# Altium footprint library switch-dil.PCBLIB: 88 footprints (part 2 of 6)
Each footprint in its own frame and in the unit in brackets; x right, y up, seen from the top. Pads: shape width x height; smd on the part's side, far side on the other; paste and mask are expansions set on the pad; w line width, h text height; cw(c..) or ccw(c..) is an arc to the next point about the centre after c.
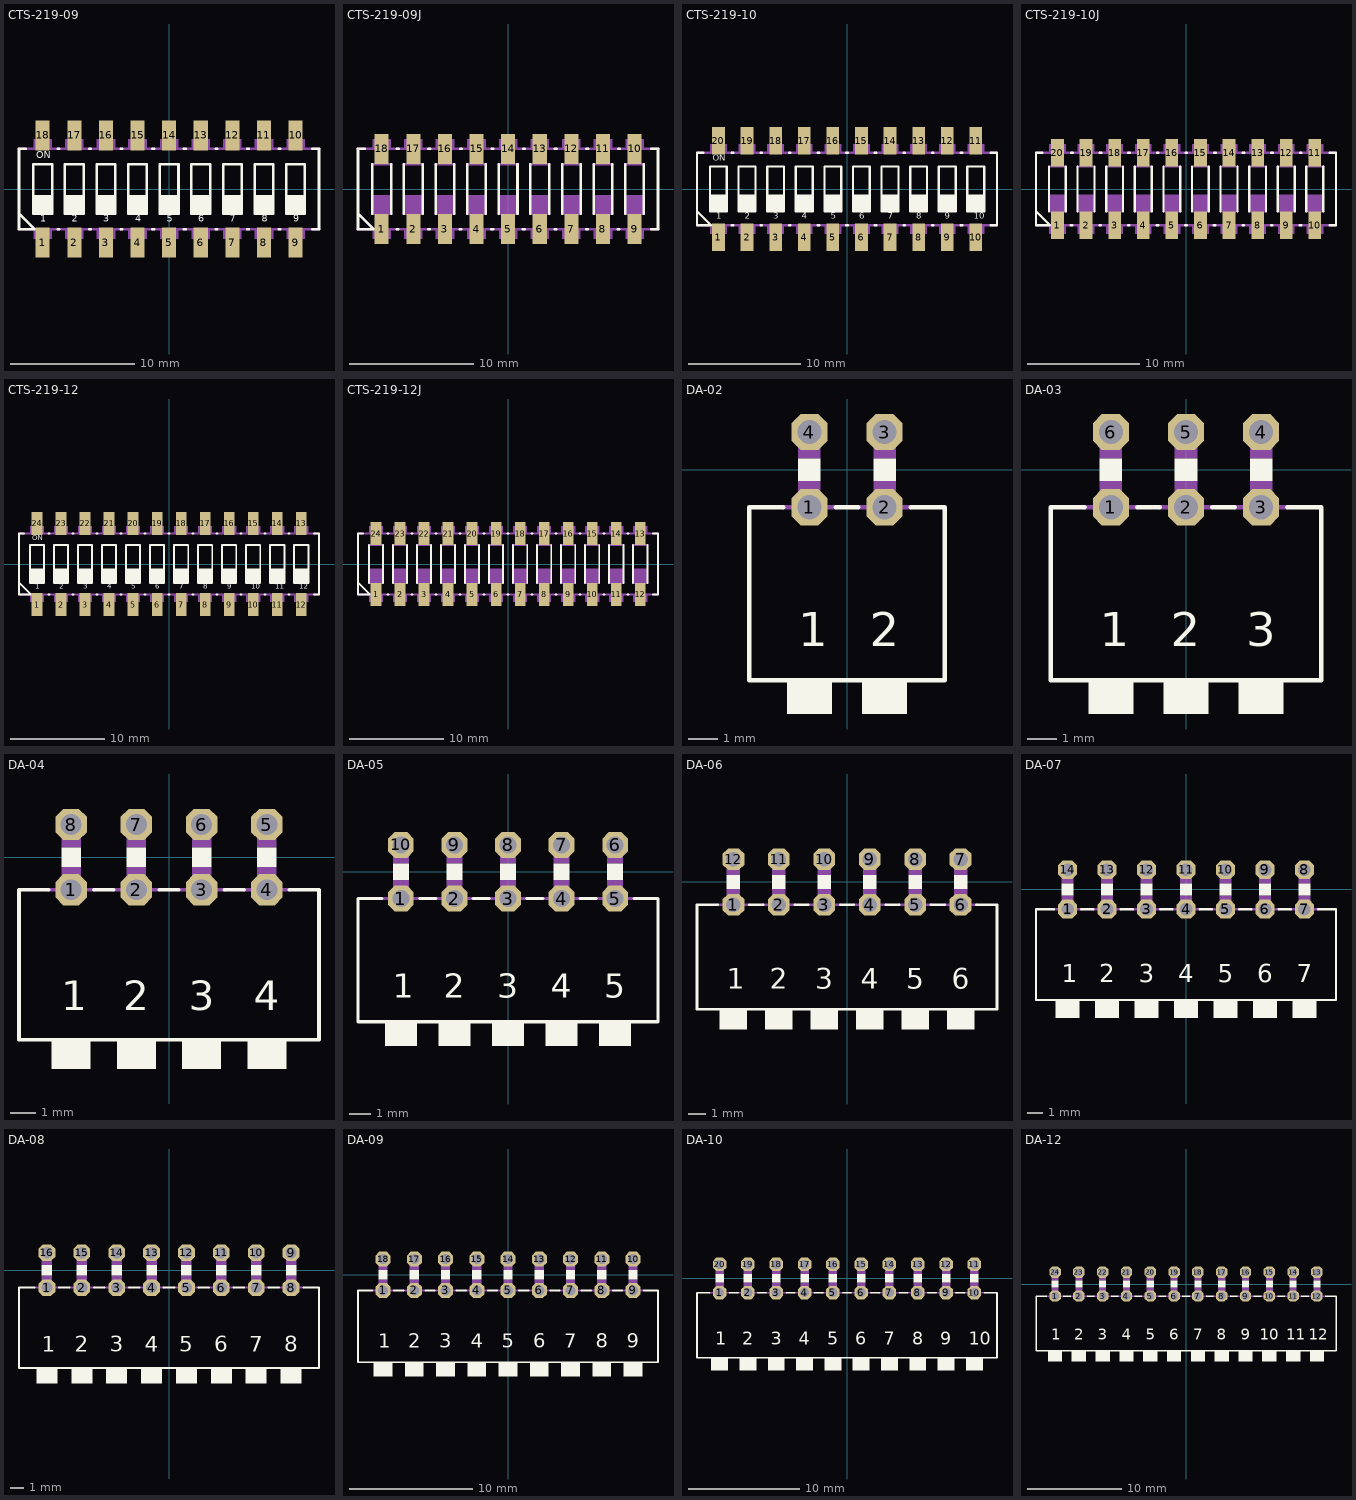
[diagram p1: the footprints below, top view; thin cyan lines are the x and y axes]

## CTS-219-09 [mil]
pads (18):
  rect 44.49x96.06 smd: 1(-400,-169.29) 2(-300,-169.29) 3(-200,-169.29) 4(-100,-169.29) 5(0,-169.29) 6(100,-169.29) 7(200,-169.29) 8(300,-169.29) 9(400,-169.29) 10(400,169.29) 11(300,169.29) 12(200,169.29) 13(100,169.29) 14(0,169.29) 15(-100,169.29) 16(-200,169.29) 17(-300,169.29) 18(-400,169.29)
Top Overlay:
  rectangle: -429.53,-78.74 -370.47,-19.69
  rectangle: -329.53,-78.74 -270.47,-19.69
  rectangle: -229.53,-78.74 -170.47,-19.69
  rectangle: -129.53,-78.74 -70.47,-19.69
  rectangle: -29.53,-78.74 29.53,-19.69
  rectangle: 70.47,-78.74 129.53,-19.69
  rectangle: 170.47,-78.74 229.53,-19.69
  rectangle: 270.47,-78.74 329.53,-19.69
  rectangle: 370.47,-78.74 429.53,-19.69
  lines w8: -474.02,-78.74 -425.79,-126.97 ; -453.15,-126.97 -425.79,-126.97 ; -453.15,126.97 -475,126.97 -475,-126.97 -425.79,-126.97 ; -353.15,-126.97 -347.83,-126.97 ; -353.15,126.97 -347.83,126.97 ; -253.15,-126.97 -247.83,-126.97 ; -253.15,126.97 -247.83,126.97 ; -153.15,-126.97 -147.83,-126.97 ; -153.15,126.97 -147.83,126.97 ; -53.15,-126.97 -47.83,-126.97 ; -53.15,126.97 -47.83,126.97 ; 46.85,-126.97 52.17,-126.97 ; 46.85,126.97 52.17,126.97 ; 146.85,-126.97 152.17,-126.97 ; 146.85,126.97 152.17,126.97 ; 246.85,-126.97 252.17,-126.97 ; 246.85,126.97 252.17,126.97 ; 346.85,-126.97 352.17,-126.97 ; 346.85,126.97 352.17,126.97 ; 452.17,-126.97 474.02,-126.97 474.02,126.97 452.17,126.97 ; -429.53,-78.74 -370.47,-78.74 -370.47,78.74 -429.53,78.74 -429.53,-78.74 ; -329.53,-78.74 -270.47,-78.74 -270.47,78.74 -329.53,78.74 -329.53,-78.74 ; -229.53,-78.74 -170.47,-78.74 -170.47,78.74 -229.53,78.74 -229.53,-78.74 ; -129.53,-78.74 -70.47,-78.74 -70.47,78.74 -129.53,78.74 -129.53,-78.74 ; -29.53,-78.74 29.53,-78.74 29.53,78.74 -29.53,78.74 -29.53,-78.74 ; 70.47,-78.74 129.53,-78.74 129.53,78.74 70.47,78.74 70.47,-78.74 ; 170.47,-78.74 229.53,-78.74 229.53,78.74 170.47,78.74 170.47,-78.74 ; 270.47,-78.74 329.53,-78.74 329.53,78.74 270.47,78.74 270.47,-78.74 ; 370.47,-78.74 429.53,-78.74 429.53,78.74 370.47,78.74 370.47,-78.74
  text "ON" at -419.69,89.57 h37.2
  text "1" at -407.87,-112.2 h37.2
  text "2" at -307.87,-112.2 h37.2
  text "3" at -207.87,-112.2 h37.2
  text "4" at -107.87,-112.2 h37.2
  text "5" at -7.87,-112.2 h37.2
  text "6" at 92.13,-112.2 h37.2
  text "7" at 192.13,-112.2 h37.2
  text "8" at 292.13,-112.2 h37.2
  text "9" at 392.13,-112.2 h37.2
Mechanical 16:
  region: -370.47,-127.95 -429.53,-127.95 -429.53,-157.48 -370.47,-157.48
  region: -170.47,-127.95 -229.53,-127.95 -229.53,-157.48 -170.47,-157.48
  region: -270.47,-127.95 -329.53,-127.95 -329.53,-157.48 -270.47,-157.48
  region: -70.47,-127.95 -129.53,-127.95 -129.53,-157.48 -70.47,-157.48
  region: 129.53,-127.95 70.47,-127.95 70.47,-157.48 129.53,-157.48
  region: 29.53,-127.95 -29.53,-127.95 -29.53,-157.48 29.53,-157.48
  region: 229.53,-127.95 170.47,-127.95 170.47,-157.48 229.53,-157.48
  region: 429.53,-127.95 370.47,-127.95 370.47,-157.48 429.53,-157.48
  region: 329.53,-127.95 270.47,-127.95 270.47,-157.48 329.53,-157.48
  rectangle: 370.47,127.95 429.53,157.48
  rectangle: 170.47,127.95 229.53,157.48
  rectangle: 270.47,127.95 329.53,157.48
  rectangle: 70.47,127.95 129.53,157.48
  rectangle: -129.53,127.95 -70.47,157.48
  rectangle: -29.53,127.95 29.53,157.48
  rectangle: -229.53,127.95 -170.47,157.48
  rectangle: -429.53,127.95 -370.47,157.48
  rectangle: -329.53,127.95 -270.47,157.48
  region: -390.16,194.88 -409.84,194.88 -409.84,157.48 -390.16,157.48
  rectangle: -409.84,-194.88 -390.16,-157.48
  region: -290.16,194.88 -309.84,194.88 -309.84,157.48 -290.16,157.48
  rectangle: -309.84,-194.88 -290.16,-157.48
  region: -190.16,194.88 -209.84,194.88 -209.84,157.48 -190.16,157.48
  rectangle: -209.84,-194.88 -190.16,-157.48
  region: -90.16,194.88 -109.84,194.88 -109.84,157.48 -90.16,157.48
  rectangle: -109.84,-194.88 -90.16,-157.48
  region: 9.84,194.88 -9.84,194.88 -9.84,157.48 9.84,157.48
  rectangle: -9.84,-194.88 9.84,-157.48
  region: 109.84,194.88 90.16,194.88 90.16,157.48 109.84,157.48
  rectangle: 90.16,-194.88 109.84,-157.48
  region: 209.84,194.88 190.16,194.88 190.16,157.48 209.84,157.48
  rectangle: 190.16,-194.88 209.84,-157.48
  region: 309.84,194.88 290.16,194.88 290.16,157.48 309.84,157.48
  rectangle: 290.16,-194.88 309.84,-157.48
  region: 409.84,194.88 390.16,194.88 390.16,157.48 409.84,157.48
  rectangle: 390.16,-194.88 409.84,-157.48
  lines w8: -475,-126.97 474.02,-126.97 ; -475,126.97 474.02,126.97

## CTS-219-09J [mil]
pads (18):
  rect 44.49x96.06 smd: 1(-400,-126.57) 2(-300,-126.57) 3(-200,-126.57) 4(-100,-126.57) 5(0,-126.57) 6(100,-126.57) 7(200,-126.57) 8(300,-126.57) 9(400,-126.57) 10(400,126.57) 11(300,126.57) 12(200,126.57) 13(100,126.57) 14(0,126.57) 15(-100,126.57) 16(-200,126.57) 17(-300,126.57) 18(-400,126.57)
Top Overlay:
  lines w8: -474.02,-78.74 -425.79,-126.97 ; -453.15,-126.97 -425.79,-126.97 ; -453.15,126.97 -475,126.97 -475,-126.97 -425.79,-126.97 ; -429.53,-78.74 -429.53,78.74 ; -370.47,-78.74 -370.47,78.74 ; -353.15,-126.97 -347.83,-126.97 ; -352.17,126.97 -346.85,126.97 ; -329.53,-78.74 -329.53,78.74 ; -270.47,-78.74 -270.47,78.74 ; -253.15,-126.97 -247.83,-126.97 ; -252.17,126.97 -246.85,126.97 ; -229.53,-78.74 -229.53,78.74 ; -170.47,-78.74 -170.47,78.74 ; -153.15,-126.97 -147.83,-126.97 ; -152.17,126.97 -146.85,126.97 ; -129.53,-78.74 -129.53,78.74 ; -70.47,-78.74 -70.47,78.74 ; -53.15,-126.97 -47.83,-126.97 ; -52.17,126.97 -46.85,126.97 ; -29.53,-78.74 -29.53,78.74 ; 29.53,-78.74 29.53,78.74 ; 46.85,-126.97 52.17,-126.97 ; 47.83,126.97 53.15,126.97 ; 70.47,-78.74 70.47,78.74 ; 129.53,-78.74 129.53,78.74 ; 146.85,-126.97 152.17,-126.97 ; 147.83,126.97 153.15,126.97 ; 170.47,-78.74 170.47,78.74 ; 229.53,-78.74 229.53,78.74 ; 246.85,-126.97 252.17,-126.97 ; 247.83,126.97 253.15,126.97 ; 270.47,-78.74 270.47,78.74 ; 329.53,-78.74 329.53,78.74 ; 346.85,-126.97 352.17,-126.97 ; 347.83,126.97 353.15,126.97 ; 370.47,-78.74 370.47,78.74 ; 429.53,-78.74 429.53,78.74 ; 452.17,-126.97 474.02,-126.97 474.02,126.97 452.17,126.97
Mechanical 16:
  region: -370.47,-127.95 -429.53,-127.95 -429.53,-157.48 -370.47,-157.48
  rectangle: -429.53,-78.74 -370.47,-19.69
  region: -170.47,-127.95 -229.53,-127.95 -229.53,-157.48 -170.47,-157.48
  region: -270.47,-127.95 -329.53,-127.95 -329.53,-157.48 -270.47,-157.48
  rectangle: -329.53,-78.74 -270.47,-19.69
  rectangle: -229.53,-78.74 -170.47,-19.69
  rectangle: -129.53,-78.74 -70.47,-19.69
  rectangle: -29.53,-78.74 29.53,-19.69
  rectangle: 70.47,-78.74 129.53,-19.69
  rectangle: 170.47,-78.74 229.53,-19.69
  rectangle: 270.47,-78.74 329.53,-19.69
  rectangle: 370.47,-78.74 429.53,-19.69
  region: -70.47,-127.95 -129.53,-127.95 -129.53,-157.48 -70.47,-157.48
  region: 129.53,-127.95 70.47,-127.95 70.47,-157.48 129.53,-157.48
  region: 29.53,-127.95 -29.53,-127.95 -29.53,-157.48 29.53,-157.48
  region: 229.53,-127.95 170.47,-127.95 170.47,-157.48 229.53,-157.48
  region: 429.53,-127.95 370.47,-127.95 370.47,-157.48 429.53,-157.48
  region: 329.53,-127.95 270.47,-127.95 270.47,-157.48 329.53,-157.48
  rectangle: 370.47,127.95 429.53,157.48
  rectangle: 170.47,127.95 229.53,157.48
  rectangle: 270.47,127.95 329.53,157.48
  rectangle: 70.47,127.95 129.53,157.48
  rectangle: -129.53,127.95 -70.47,157.48
  rectangle: -29.53,127.95 29.53,157.48
  rectangle: -229.53,127.95 -170.47,157.48
  rectangle: -429.53,127.95 -370.47,157.48
  rectangle: -329.53,127.95 -270.47,157.48
  lines w8: -475,-126.97 474.02,-126.97 ; -475,126.97 474.02,126.97 ; -429.53,-78.74 -370.47,-78.74 ; -429.53,78.74 -370.47,78.74 ; -329.53,-78.74 -270.47,-78.74 ; -329.53,78.74 -270.47,78.74 ; -229.53,-78.74 -170.47,-78.74 ; -229.53,78.74 -170.47,78.74 ; -129.53,-78.74 -70.47,-78.74 ; -129.53,78.74 -70.47,78.74 ; -29.53,-78.74 29.53,-78.74 ; -29.53,78.74 29.53,78.74 ; 70.47,-78.74 129.53,-78.74 ; 70.47,78.74 129.53,78.74 ; 170.47,-78.74 229.53,-78.74 ; 170.47,78.74 229.53,78.74 ; 270.47,-78.74 329.53,-78.74 ; 270.47,78.74 329.53,78.74 ; 370.47,-78.74 429.53,-78.74 ; 370.47,78.74 429.53,78.74
  text "ON" at -419.69,89.57 h37.2
  text "1" at -407.87,-112.2 h37.2
  text "2" at -307.87,-112.2 h37.2
  text "3" at -207.87,-112.2 h37.2
  text "4" at -107.87,-112.2 h37.2
  text "5" at -7.87,-112.2 h37.2
  text "6" at 92.13,-112.2 h37.2
  text "7" at 192.13,-112.2 h37.2
  text "8" at 292.13,-112.2 h37.2
  text "9" at 392.13,-112.2 h37.2

## CTS-219-10 [mil]
pads (20):
  rect 44.49x96.06 smd: 1(-450,-169.29) 2(-350,-169.29) 3(-250,-169.29) 4(-150,-169.29) 5(-50,-169.29) 6(50,-169.29) 7(150,-169.29) 8(250,-169.29) 9(350,-169.29) 10(450,-169.29) 11(450,169.29) 12(350,169.29) 13(250,169.29) 14(150,169.29) 15(50,169.29) 16(-50,169.29) 17(-150,169.29) 18(-250,169.29) 19(-350,169.29) 20(-450,169.29)
Top Overlay:
  rectangle: -479.53,-78.74 -420.47,-19.69
  rectangle: -379.53,-78.74 -320.47,-19.69
  rectangle: -279.53,-78.74 -220.47,-19.69
  rectangle: -179.53,-78.74 -120.47,-19.69
  rectangle: -79.53,-78.74 -20.47,-19.69
  rectangle: 20.47,-78.74 79.53,-19.69
  rectangle: 120.47,-78.74 179.53,-19.69
  rectangle: 220.47,-78.74 279.53,-19.69
  rectangle: 320.47,-78.74 379.53,-19.69
  rectangle: 420.47,-78.74 479.53,-19.69
  lines w8: -524.02,-78.74 -475.79,-126.97 ; -503.15,-126.97 -475.79,-126.97 ; -503.15,126.97 -525,126.97 -525,-126.97 -475.79,-126.97 ; -403.15,-126.97 -397.83,-126.97 ; -403.15,126.97 -397.83,126.97 ; -303.15,-126.97 -297.83,-126.97 ; -303.15,126.97 -297.83,126.97 ; -203.15,-126.97 -197.83,-126.97 ; -203.15,126.97 -197.83,126.97 ; -103.15,-126.97 -97.83,-126.97 ; -103.15,126.97 -97.83,126.97 ; -3.15,-126.97 2.17,-126.97 ; -3.15,126.97 2.17,126.97 ; 96.85,-126.97 102.17,-126.97 ; 96.85,126.97 102.17,126.97 ; 196.85,-126.97 202.17,-126.97 ; 196.85,126.97 202.17,126.97 ; 296.85,-126.97 302.17,-126.97 ; 296.85,126.97 302.17,126.97 ; 396.85,-126.97 402.17,-126.97 ; 396.85,126.97 402.17,126.97 ; 502.17,-126.97 524.02,-126.97 524.02,126.97 502.17,126.97 ; -479.53,-78.74 -420.47,-78.74 -420.47,78.74 -479.53,78.74 -479.53,-78.74 ; -379.53,-78.74 -320.47,-78.74 -320.47,78.74 -379.53,78.74 -379.53,-78.74 ; -279.53,-78.74 -220.47,-78.74 -220.47,78.74 -279.53,78.74 -279.53,-78.74 ; -179.53,-78.74 -120.47,-78.74 -120.47,78.74 -179.53,78.74 -179.53,-78.74 ; -79.53,-78.74 -20.47,-78.74 -20.47,78.74 -79.53,78.74 -79.53,-78.74 ; 20.47,-78.74 79.53,-78.74 79.53,78.74 20.47,78.74 20.47,-78.74 ; 120.47,-78.74 179.53,-78.74 179.53,78.74 120.47,78.74 120.47,-78.74 ; 220.47,-78.74 279.53,-78.74 279.53,78.74 220.47,78.74 220.47,-78.74 ; 320.47,-78.74 379.53,-78.74 379.53,78.74 320.47,78.74 320.47,-78.74 ; 420.47,-78.74 479.53,-78.74 479.53,78.74 420.47,78.74 420.47,-78.74
  text "ON" at -469.69,89.57 h37.2
  text "1" at -457.87,-112.2 h37.2
  text "2" at -357.87,-112.2 h37.2
  text "3" at -257.87,-112.2 h37.2
  text "4" at -157.87,-112.2 h37.2
  text "5" at -57.87,-112.2 h37.2
  text "6" at 42.13,-112.2 h37.2
  text "7" at 142.13,-112.2 h37.2
  text "8" at 242.13,-112.2 h37.2
  text "9" at 342.13,-112.2 h37.2
  text "10" at 442.13,-112.2 h37.2
Mechanical 16:
  region: -420.47,-127.95 -479.53,-127.95 -479.53,-157.48 -420.47,-157.48
  region: -220.47,-127.95 -279.53,-127.95 -279.53,-157.48 -220.47,-157.48
  region: -320.47,-127.95 -379.53,-127.95 -379.53,-157.48 -320.47,-157.48
  region: -120.47,-127.95 -179.53,-127.95 -179.53,-157.48 -120.47,-157.48
  region: 79.53,-127.95 20.47,-127.95 20.47,-157.48 79.53,-157.48
  region: -20.47,-127.95 -79.53,-127.95 -79.53,-157.48 -20.47,-157.48
  region: 179.53,-127.95 120.47,-127.95 120.47,-157.48 179.53,-157.48
  region: 379.53,-127.95 320.47,-127.95 320.47,-157.48 379.53,-157.48
  region: 279.53,-127.95 220.47,-127.95 220.47,-157.48 279.53,-157.48
  region: 479.53,-127.95 420.47,-127.95 420.47,-157.48 479.53,-157.48
  rectangle: 420.47,127.95 479.53,157.48
  rectangle: 220.47,127.95 279.53,157.48
  rectangle: 320.47,127.95 379.53,157.48
  rectangle: 120.47,127.95 179.53,157.48
  rectangle: -79.53,127.95 -20.47,157.48
  rectangle: 20.47,127.95 79.53,157.48
  rectangle: -179.53,127.95 -120.47,157.48
  rectangle: -379.53,127.95 -320.47,157.48
  rectangle: -279.53,127.95 -220.47,157.48
  rectangle: -479.53,127.95 -420.47,157.48
  region: -440.16,194.88 -459.84,194.88 -459.84,157.48 -440.16,157.48
  rectangle: -459.84,-194.88 -440.16,-157.48
  region: -340.16,194.88 -359.84,194.88 -359.84,157.48 -340.16,157.48
  rectangle: -359.84,-194.88 -340.16,-157.48
  region: -240.16,194.88 -259.84,194.88 -259.84,157.48 -240.16,157.48
  rectangle: -259.84,-194.88 -240.16,-157.48
  region: -140.16,194.88 -159.84,194.88 -159.84,157.48 -140.16,157.48
  rectangle: -159.84,-194.88 -140.16,-157.48
  region: -40.16,194.88 -59.84,194.88 -59.84,157.48 -40.16,157.48
  rectangle: -59.84,-194.88 -40.16,-157.48
  region: 59.84,194.88 40.16,194.88 40.16,157.48 59.84,157.48
  rectangle: 40.16,-194.88 59.84,-157.48
  region: 159.84,194.88 140.16,194.88 140.16,157.48 159.84,157.48
  rectangle: 140.16,-194.88 159.84,-157.48
  region: 259.84,194.88 240.16,194.88 240.16,157.48 259.84,157.48
  rectangle: 240.16,-194.88 259.84,-157.48
  region: 359.84,194.88 340.16,194.88 340.16,157.48 359.84,157.48
  rectangle: 340.16,-194.88 359.84,-157.48
  region: 459.84,194.88 440.16,194.88 440.16,157.48 459.84,157.48
  rectangle: 440.16,-194.88 459.84,-157.48
  lines w8: -525,-126.97 524.02,-126.97 ; -525,126.97 524.02,126.97

## CTS-219-10J [mil]
pads (20):
  rect 44.49x96.06 smd: 1(-450,-126.57) 2(-350,-126.57) 3(-250,-126.57) 4(-150,-126.57) 5(-50,-126.57) 6(50,-126.57) 7(150,-126.57) 8(250,-126.57) 9(350,-126.57) 10(450,-126.57) 11(450,126.57) 12(350,126.57) 13(250,126.57) 14(150,126.57) 15(50,126.57) 16(-50,126.57) 17(-150,126.57) 18(-250,126.57) 19(-350,126.57) 20(-450,126.57)
Top Overlay:
  lines w8: -524.02,-78.74 -475.79,-126.97 ; -503.15,-126.97 -475.79,-126.97 ; -503.15,126.97 -525,126.97 -525,-126.97 -475.79,-126.97 ; -479.53,-78.74 -479.53,78.74 ; -420.47,-78.74 -420.47,78.74 ; -403.15,-126.97 -397.83,-126.97 ; -402.17,126.97 -396.85,126.97 ; -379.53,-78.74 -379.53,78.74 ; -320.47,-78.74 -320.47,78.74 ; -303.15,-126.97 -297.83,-126.97 ; -302.17,126.97 -296.85,126.97 ; -279.53,-78.74 -279.53,78.74 ; -220.47,-78.74 -220.47,78.74 ; -203.15,-126.97 -197.83,-126.97 ; -202.17,126.97 -196.85,126.97 ; -179.53,-78.74 -179.53,78.74 ; -120.47,-78.74 -120.47,78.74 ; -103.15,-126.97 -97.83,-126.97 ; -102.17,126.97 -96.85,126.97 ; -79.53,-78.74 -79.53,78.74 ; -20.47,-78.74 -20.47,78.74 ; -3.15,-126.97 2.17,-126.97 ; -2.17,126.97 3.15,126.97 ; 20.47,-78.74 20.47,78.74 ; 79.53,-78.74 79.53,78.74 ; 96.85,-126.97 102.17,-126.97 ; 97.83,126.97 103.15,126.97 ; 120.47,-78.74 120.47,78.74 ; 179.53,-78.74 179.53,78.74 ; 196.85,-126.97 202.17,-126.97 ; 197.83,126.97 203.15,126.97 ; 220.47,-78.74 220.47,78.74 ; 279.53,-78.74 279.53,78.74 ; 296.85,-126.97 302.17,-126.97 ; 297.83,126.97 303.15,126.97 ; 320.47,-78.74 320.47,78.74 ; 379.53,-78.74 379.53,78.74 ; 396.85,-126.97 402.17,-126.97 ; 397.83,126.97 403.15,126.97 ; 420.47,-78.74 420.47,78.74 ; 479.53,-78.74 479.53,78.74 ; 502.17,-126.97 524.02,-126.97 524.02,126.97 502.17,126.97
Mechanical 16:
  region: -420.47,-127.95 -479.53,-127.95 -479.53,-157.48 -420.47,-157.48
  rectangle: -479.53,-78.74 -420.47,-19.69
  region: -220.47,-127.95 -279.53,-127.95 -279.53,-157.48 -220.47,-157.48
  region: -320.47,-127.95 -379.53,-127.95 -379.53,-157.48 -320.47,-157.48
  rectangle: -379.53,-78.74 -320.47,-19.69
  rectangle: -279.53,-78.74 -220.47,-19.69
  rectangle: -179.53,-78.74 -120.47,-19.69
  rectangle: -79.53,-78.74 -20.47,-19.69
  rectangle: 20.47,-78.74 79.53,-19.69
  rectangle: 120.47,-78.74 179.53,-19.69
  rectangle: 220.47,-78.74 279.53,-19.69
  rectangle: 320.47,-78.74 379.53,-19.69
  rectangle: 420.47,-78.74 479.53,-19.69
  region: -120.47,-127.95 -179.53,-127.95 -179.53,-157.48 -120.47,-157.48
  region: 79.53,-127.95 20.47,-127.95 20.47,-157.48 79.53,-157.48
  region: -20.47,-127.95 -79.53,-127.95 -79.53,-157.48 -20.47,-157.48
  region: 179.53,-127.95 120.47,-127.95 120.47,-157.48 179.53,-157.48
  region: 379.53,-127.95 320.47,-127.95 320.47,-157.48 379.53,-157.48
  region: 279.53,-127.95 220.47,-127.95 220.47,-157.48 279.53,-157.48
  region: 479.53,-127.95 420.47,-127.95 420.47,-157.48 479.53,-157.48
  rectangle: 420.47,127.95 479.53,157.48
  rectangle: 220.47,127.95 279.53,157.48
  rectangle: 320.47,127.95 379.53,157.48
  rectangle: 120.47,127.95 179.53,157.48
  rectangle: -79.53,127.95 -20.47,157.48
  rectangle: 20.47,127.95 79.53,157.48
  rectangle: -179.53,127.95 -120.47,157.48
  rectangle: -379.53,127.95 -320.47,157.48
  rectangle: -279.53,127.95 -220.47,157.48
  rectangle: -479.53,127.95 -420.47,157.48
  lines w8: -525,-126.97 524.02,-126.97 ; -525,126.97 524.02,126.97 ; -479.53,-78.74 -420.47,-78.74 ; -479.53,78.74 -420.47,78.74 ; -379.53,-78.74 -320.47,-78.74 ; -379.53,78.74 -320.47,78.74 ; -279.53,-78.74 -220.47,-78.74 ; -279.53,78.74 -220.47,78.74 ; -179.53,-78.74 -120.47,-78.74 ; -179.53,78.74 -120.47,78.74 ; -79.53,-78.74 -20.47,-78.74 ; -79.53,78.74 -20.47,78.74 ; 20.47,-78.74 79.53,-78.74 ; 20.47,78.74 79.53,78.74 ; 120.47,-78.74 179.53,-78.74 ; 120.47,78.74 179.53,78.74 ; 220.47,-78.74 279.53,-78.74 ; 220.47,78.74 279.53,78.74 ; 320.47,-78.74 379.53,-78.74 ; 320.47,78.74 379.53,78.74 ; 420.47,-78.74 479.53,-78.74 ; 420.47,78.74 479.53,78.74
  text "ON" at -469.69,89.57 h37.2
  text "1" at -457.87,-112.2 h37.2
  text "2" at -357.87,-112.2 h37.2
  text "3" at -257.87,-112.2 h37.2
  text "4" at -157.87,-112.2 h37.2
  text "5" at -57.87,-112.2 h37.2
  text "6" at 42.13,-112.2 h37.2
  text "7" at 142.13,-112.2 h37.2
  text "8" at 242.13,-112.2 h37.2
  text "9" at 342.13,-112.2 h37.2
  text "10" at 442.13,-112.2 h37.2

## CTS-219-12 [mil]
pads (24):
  rect 44.49x96.06 smd: 1(-550,-169.29) 2(-450,-169.29) 3(-350,-169.29) 4(-250,-169.29) 5(-150,-169.29) 6(-50,-169.29) 7(50,-169.29) 8(150,-169.29) 9(250,-169.29) 10(350,-169.29) 11(450,-169.29) 12(550,-169.29) 13(550,169.29) 14(450,169.29) 15(350,169.29) 16(250,169.29) 17(150,169.29) 18(50,169.29) 19(-50,169.29) 20(-150,169.29) 21(-250,169.29) 22(-350,169.29) 23(-450,169.29) 24(-550,169.29)
Top Overlay:
  rectangle: -579.53,-78.74 -520.47,-19.69
  rectangle: -479.53,-78.74 -420.47,-19.69
  rectangle: -379.53,-78.74 -320.47,-19.69
  rectangle: -279.53,-78.74 -220.47,-19.69
  rectangle: -179.53,-78.74 -120.47,-19.69
  rectangle: -79.53,-78.74 -20.47,-19.69
  rectangle: 20.47,-78.74 79.53,-19.69
  rectangle: 120.47,-78.74 179.53,-19.69
  rectangle: 220.47,-78.74 279.53,-19.69
  rectangle: 320.47,-78.74 379.53,-19.69
  rectangle: 420.47,-78.74 479.53,-19.69
  rectangle: 520.47,-78.74 579.53,-19.69
  lines w8: -624.02,-78.74 -575.79,-126.97 ; -603.15,-126.97 -575.79,-126.97 ; -603.15,126.97 -625,126.97 -625,-126.97 -575.79,-126.97 ; -503.15,-126.97 -497.83,-126.97 ; -503.15,126.97 -497.83,126.97 ; -403.15,-126.97 -397.83,-126.97 ; -403.15,126.97 -397.83,126.97 ; -303.15,-126.97 -297.83,-126.97 ; -303.15,126.97 -297.83,126.97 ; -203.15,-126.97 -197.83,-126.97 ; -203.15,126.97 -197.83,126.97 ; -103.15,-126.97 -97.83,-126.97 ; -103.15,126.97 -97.83,126.97 ; -3.15,-126.97 2.17,-126.97 ; -3.15,126.97 2.17,126.97 ; 96.85,-126.97 102.17,-126.97 ; 96.85,126.97 102.17,126.97 ; 196.85,-126.97 202.17,-126.97 ; 196.85,126.97 202.17,126.97 ; 296.85,-126.97 302.17,-126.97 ; 296.85,126.97 302.17,126.97 ; 396.85,-126.97 402.17,-126.97 ; 396.85,126.97 402.17,126.97 ; 496.85,-126.97 502.17,-126.97 ; 496.85,126.97 502.17,126.97 ; 602.17,-126.97 624.02,-126.97 624.02,126.97 602.17,126.97 ; -579.53,-78.74 -520.47,-78.74 -520.47,78.74 -579.53,78.74 -579.53,-78.74 ; -479.53,-78.74 -420.47,-78.74 -420.47,78.74 -479.53,78.74 -479.53,-78.74 ; -379.53,-78.74 -320.47,-78.74 -320.47,78.74 -379.53,78.74 -379.53,-78.74 ; -279.53,-78.74 -220.47,-78.74 -220.47,78.74 -279.53,78.74 -279.53,-78.74 ; -179.53,-78.74 -120.47,-78.74 -120.47,78.74 -179.53,78.74 -179.53,-78.74 ; -79.53,-78.74 -20.47,-78.74 -20.47,78.74 -79.53,78.74 -79.53,-78.74 ; 20.47,-78.74 79.53,-78.74 79.53,78.74 20.47,78.74 20.47,-78.74 ; 120.47,-78.74 179.53,-78.74 179.53,78.74 120.47,78.74 120.47,-78.74 ; 220.47,-78.74 279.53,-78.74 279.53,78.74 220.47,78.74 220.47,-78.74 ; 320.47,-78.74 379.53,-78.74 379.53,78.74 320.47,78.74 320.47,-78.74 ; 420.47,-78.74 479.53,-78.74 479.53,78.74 420.47,78.74 420.47,-78.74 ; 520.47,-78.74 579.53,-78.74 579.53,78.74 520.47,78.74 520.47,-78.74
  text "ON" at -569.69,89.57 h37.2
  text "1" at -557.87,-112.2 h37.2
  text "2" at -457.87,-112.2 h37.2
  text "3" at -357.87,-112.2 h37.2
  text "4" at -257.87,-112.2 h37.2
  text "5" at -157.87,-112.2 h37.2
  text "6" at -57.87,-112.2 h37.2
  text "7" at 42.13,-112.2 h37.2
  text "8" at 142.13,-112.2 h37.2
  text "9" at 242.13,-112.2 h37.2
  text "10" at 342.13,-112.2 h37.2
  text "11" at 442.13,-112.2 h37.2
  text "12" at 542.13,-112.2 h37.2
Mechanical 16:
  region: -520.47,-127.95 -579.53,-127.95 -579.53,-157.48 -520.47,-157.48
  region: -320.47,-127.95 -379.53,-127.95 -379.53,-157.48 -320.47,-157.48
  region: -420.47,-127.95 -479.53,-127.95 -479.53,-157.48 -420.47,-157.48
  region: -220.47,-127.95 -279.53,-127.95 -279.53,-157.48 -220.47,-157.48
  region: -20.47,-127.95 -79.53,-127.95 -79.53,-157.48 -20.47,-157.48
  region: -120.47,-127.95 -179.53,-127.95 -179.53,-157.48 -120.47,-157.48
  region: 79.53,-127.95 20.47,-127.95 20.47,-157.48 79.53,-157.48
  region: 279.53,-127.95 220.47,-127.95 220.47,-157.48 279.53,-157.48
  region: 179.53,-127.95 120.47,-127.95 120.47,-157.48 179.53,-157.48
  region: 379.53,-127.95 320.47,-127.95 320.47,-157.48 379.53,-157.48
  region: 579.53,-127.95 520.47,-127.95 520.47,-157.48 579.53,-157.48
  region: 479.53,-127.95 420.47,-127.95 420.47,-157.48 479.53,-157.48
  rectangle: 520.47,127.95 579.53,157.48
  rectangle: 320.47,127.95 379.53,157.48
  rectangle: 420.47,127.95 479.53,157.48
  rectangle: 220.47,127.95 279.53,157.48
  rectangle: 20.47,127.95 79.53,157.48
  rectangle: 120.47,127.95 179.53,157.48
  rectangle: -79.53,127.95 -20.47,157.48
  rectangle: -279.53,127.95 -220.47,157.48
  rectangle: -179.53,127.95 -120.47,157.48
  rectangle: -379.53,127.95 -320.47,157.48
  rectangle: -579.53,127.95 -520.47,157.48
  rectangle: -479.53,127.95 -420.47,157.48
  region: -540.16,194.88 -559.84,194.88 -559.84,157.48 -540.16,157.48
  rectangle: -559.84,-194.88 -540.16,-157.48
  region: -440.16,194.88 -459.84,194.88 -459.84,157.48 -440.16,157.48
  rectangle: -459.84,-194.88 -440.16,-157.48
  region: -340.16,194.88 -359.84,194.88 -359.84,157.48 -340.16,157.48
  rectangle: -359.84,-194.88 -340.16,-157.48
  region: -240.16,194.88 -259.84,194.88 -259.84,157.48 -240.16,157.48
  rectangle: -259.84,-194.88 -240.16,-157.48
  region: -140.16,194.88 -159.84,194.88 -159.84,157.48 -140.16,157.48
  rectangle: -159.84,-194.88 -140.16,-157.48
  region: -40.16,194.88 -59.84,194.88 -59.84,157.48 -40.16,157.48
  rectangle: -59.84,-194.88 -40.16,-157.48
  region: 59.84,194.88 40.16,194.88 40.16,157.48 59.84,157.48
  rectangle: 40.16,-194.88 59.84,-157.48
  region: 159.84,194.88 140.16,194.88 140.16,157.48 159.84,157.48
  rectangle: 140.16,-194.88 159.84,-157.48
  region: 259.84,194.88 240.16,194.88 240.16,157.48 259.84,157.48
  rectangle: 240.16,-194.88 259.84,-157.48
  region: 359.84,194.88 340.16,194.88 340.16,157.48 359.84,157.48
  rectangle: 340.16,-194.88 359.84,-157.48
  region: 459.84,194.88 440.16,194.88 440.16,157.48 459.84,157.48
  rectangle: 440.16,-194.88 459.84,-157.48
  region: 559.84,194.88 540.16,194.88 540.16,157.48 559.84,157.48
  rectangle: 540.16,-194.88 559.84,-157.48
  lines w8: -625,-126.97 624.02,-126.97 ; -625,126.97 624.02,126.97

## CTS-219-12J [mil]
pads (24):
  rect 44.49x96.06 smd: 1(-550,-126.57) 2(-450,-126.57) 3(-350,-126.57) 4(-250,-126.57) 5(-150,-126.57) 6(-50,-126.57) 7(50,-126.57) 8(150,-126.57) 9(250,-126.57) 10(350,-126.57) 11(450,-126.57) 12(550,-126.57) 13(550,126.57) 14(450,126.57) 15(350,126.57) 16(250,126.57) 17(150,126.57) 18(50,126.57) 19(-50,126.57) 20(-150,126.57) 21(-250,126.57) 22(-350,126.57) 23(-450,126.57) 24(-550,126.57)
Top Overlay:
  lines w8: -624.02,-78.74 -575.79,-126.97 ; -603.15,-126.97 -575.79,-126.97 ; -603.15,126.97 -625,126.97 -625,-126.97 -575.79,-126.97 ; -579.53,-78.74 -579.53,78.74 ; -520.47,-78.74 -520.47,78.74 ; -503.15,-126.97 -497.83,-126.97 ; -503.15,126.97 -497.83,126.97 ; -479.53,-78.74 -479.53,78.74 ; -420.47,-78.74 -420.47,78.74 ; -403.15,-126.97 -397.83,-126.97 ; -403.15,126.97 -397.83,126.97 ; -379.53,-78.74 -379.53,78.74 ; -320.47,-78.74 -320.47,78.74 ; -303.15,-126.97 -297.83,-126.97 ; -303.15,126.97 -297.83,126.97 ; -279.53,-78.74 -279.53,78.74 ; -220.47,-78.74 -220.47,78.74 ; -203.15,-126.97 -197.83,-126.97 ; -203.15,126.97 -197.83,126.97 ; -179.53,-78.74 -179.53,78.74 ; -120.47,-78.74 -120.47,78.74 ; -103.15,-126.97 -97.83,-126.97 ; -103.15,126.97 -97.83,126.97 ; -79.53,-78.74 -79.53,78.74 ; -20.47,-78.74 -20.47,78.74 ; -3.15,-126.97 2.17,-126.97 ; -3.15,126.97 2.17,126.97 ; 20.47,-78.74 20.47,78.74 ; 79.53,-78.74 79.53,78.74 ; 96.85,-126.97 102.17,-126.97 ; 96.85,126.97 102.17,126.97 ; 120.47,-78.74 120.47,78.74 ; 179.53,-78.74 179.53,78.74 ; 196.85,-126.97 202.17,-126.97 ; 196.85,126.97 202.17,126.97 ; 220.47,-78.74 220.47,78.74 ; 279.53,-78.74 279.53,78.74 ; 296.85,-126.97 302.17,-126.97 ; 296.85,126.97 302.17,126.97 ; 320.47,-78.74 320.47,78.74 ; 379.53,-78.74 379.53,78.74 ; 396.85,-126.97 402.17,-126.97 ; 396.85,126.97 402.17,126.97 ; 420.47,-78.74 420.47,78.74 ; 479.53,-78.74 479.53,78.74 ; 496.85,-126.97 502.17,-126.97 ; 496.85,126.97 502.17,126.97 ; 520.47,-78.74 520.47,78.74 ; 579.53,-78.74 579.53,78.74 ; 602.17,-126.97 624.02,-126.97 624.02,126.97 602.17,126.97
Mechanical 16:
  region: -520.47,-127.95 -579.53,-127.95 -579.53,-157.48 -520.47,-157.48
  rectangle: -579.53,-78.74 -520.47,-19.69
  region: -320.47,-127.95 -379.53,-127.95 -379.53,-157.48 -320.47,-157.48
  region: -420.47,-127.95 -479.53,-127.95 -479.53,-157.48 -420.47,-157.48
  rectangle: -479.53,-78.74 -420.47,-19.69
  rectangle: -379.53,-78.74 -320.47,-19.69
  rectangle: -279.53,-78.74 -220.47,-19.69
  rectangle: -179.53,-78.74 -120.47,-19.69
  rectangle: -79.53,-78.74 -20.47,-19.69
  rectangle: 20.47,-78.74 79.53,-19.69
  rectangle: 120.47,-78.74 179.53,-19.69
  rectangle: 220.47,-78.74 279.53,-19.69
  rectangle: 320.47,-78.74 379.53,-19.69
  rectangle: 420.47,-78.74 479.53,-19.69
  rectangle: 520.47,-78.74 579.53,-19.69
  region: -220.47,-127.95 -279.53,-127.95 -279.53,-157.48 -220.47,-157.48
  region: -20.47,-127.95 -79.53,-127.95 -79.53,-157.48 -20.47,-157.48
  region: -120.47,-127.95 -179.53,-127.95 -179.53,-157.48 -120.47,-157.48
  region: 79.53,-127.95 20.47,-127.95 20.47,-157.48 79.53,-157.48
  region: 279.53,-127.95 220.47,-127.95 220.47,-157.48 279.53,-157.48
  region: 179.53,-127.95 120.47,-127.95 120.47,-157.48 179.53,-157.48
  region: 379.53,-127.95 320.47,-127.95 320.47,-157.48 379.53,-157.48
  region: 579.53,-127.95 520.47,-127.95 520.47,-157.48 579.53,-157.48
  region: 479.53,-127.95 420.47,-127.95 420.47,-157.48 479.53,-157.48
  rectangle: 520.47,127.95 579.53,157.48
  rectangle: 320.47,127.95 379.53,157.48
  rectangle: 420.47,127.95 479.53,157.48
  rectangle: 220.47,127.95 279.53,157.48
  rectangle: 20.47,127.95 79.53,157.48
  rectangle: 120.47,127.95 179.53,157.48
  rectangle: -79.53,127.95 -20.47,157.48
  rectangle: -279.53,127.95 -220.47,157.48
  rectangle: -179.53,127.95 -120.47,157.48
  rectangle: -379.53,127.95 -320.47,157.48
  rectangle: -579.53,127.95 -520.47,157.48
  rectangle: -479.53,127.95 -420.47,157.48
  lines w8: -625,-126.97 624.02,-126.97 ; -625,126.97 624.02,126.97 ; -579.53,-78.74 -520.47,-78.74 ; -579.53,78.74 -520.47,78.74 ; -479.53,-78.74 -420.47,-78.74 ; -479.53,78.74 -420.47,78.74 ; -379.53,-78.74 -320.47,-78.74 ; -379.53,78.74 -320.47,78.74 ; -279.53,-78.74 -220.47,-78.74 ; -279.53,78.74 -220.47,78.74 ; -179.53,-78.74 -120.47,-78.74 ; -179.53,78.74 -120.47,78.74 ; -79.53,-78.74 -20.47,-78.74 ; -79.53,78.74 -20.47,78.74 ; 20.47,-78.74 79.53,-78.74 ; 20.47,78.74 79.53,78.74 ; 120.47,-78.74 179.53,-78.74 ; 120.47,78.74 179.53,78.74 ; 220.47,-78.74 279.53,-78.74 ; 220.47,78.74 279.53,78.74 ; 320.47,-78.74 379.53,-78.74 ; 320.47,78.74 379.53,78.74 ; 420.47,-78.74 479.53,-78.74 ; 420.47,78.74 479.53,78.74 ; 520.47,-78.74 579.53,-78.74 ; 520.47,78.74 579.53,78.74
  text "ON" at -569.69,89.57 h37.2
  text "1" at -557.87,-112.2 h37.2
  text "2" at -457.87,-112.2 h37.2
  text "3" at -357.87,-112.2 h37.2
  text "4" at -257.87,-112.2 h37.2
  text "5" at -157.87,-112.2 h37.2
  text "6" at -57.87,-112.2 h37.2
  text "7" at 42.13,-112.2 h37.2
  text "8" at 142.13,-112.2 h37.2
  text "9" at 242.13,-112.2 h37.2
  text "10" at 342.13,-112.2 h37.2
  text "11" at 442.13,-112.2 h37.2
  text "12" at 542.13,-112.2 h37.2

## DA-02 [mil]
pads (4):
  oct 48x48 hole 32: 1(-50,-50) 2(50,-50) 3(50,50) 4(-50,50)
Top Overlay:
  rectangle: -80,-325 -20,-280
  rectangle: 20,-325 80,-280
  rectangle: -65,-15 -35,15
  rectangle: 35,-15 65,15
  lines w6: -85,-50 -130,-50 -130,-280 130,-280 130,-50 85,-50 ; -15,-50 15,-50
  text "1" at -65,-250 h77.5
  text "2" at 30,-250 h77.5
Mechanical 16:
  rectangle: -65,-50 -35,-15
  rectangle: -65,15 -35,55
  rectangle: 35,-50 65,-15
  rectangle: 35,15 65,55
  lines w6: -85,-50 -15,-50 ; 15,-50 85,-50

## DA-03 [mil]
pads (6):
  oct 48x48 hole 32: 1(-100,-50) 2(0,-50) 3(100,-50) 4(100,50) 5(0,50) 6(-100,50)
Top Overlay:
  rectangle: -130,-325 -70,-280
  rectangle: -30,-325 30,-280
  rectangle: -115,-15 -85,15
  rectangle: -15,-15 15,15
  rectangle: 85,-15 115,15
  rectangle: 70,-325 130,-280
  lines w6: -135,-50 -180,-50 -180,-280 180,-280 180,-50 135,-50 ; -65,-50 -35,-50 ; 35,-50 65,-50
  text "1" at -115,-250 h77.5
  text "2" at -20,-250 h77.5
  text "3" at 80,-250 h77.5
Mechanical 16:
  rectangle: -115,-50 -85,-15
  rectangle: -115,15 -85,55
  rectangle: -15,-50 15,-15
  rectangle: -15,15 15,55
  rectangle: 85,-50 115,-15
  rectangle: 85,15 115,55
  lines w6: -135,-50 -65,-50 ; -35,-50 35,-50 ; 65,-50 135,-50

## DA-04 [mil]
pads (8):
  oct 48x48 hole 32: 1(-150,-50) 2(-50,-50) 3(50,-50) 4(150,-50) 5(150,50) 6(50,50) 7(-50,50) 8(-150,50)
Top Overlay:
  rectangle: -180,-325 -120,-280
  rectangle: -80,-325 -20,-280
  rectangle: -165,-15 -135,15
  rectangle: -65,-15 -35,15
  rectangle: 35,-15 65,15
  rectangle: 135,-15 165,15
  rectangle: 20,-325 80,-280
  rectangle: 120,-325 180,-280
  lines w6: -185,-50 -230,-50 -230,-280 230,-280 230,-50 185,-50 ; -115,-50 -85,-50 ; -15,-50 15,-50 ; 85,-50 115,-50
  text "1" at -165,-250 h77.5
  text "2" at -70,-250 h77.5
  text "3" at 30,-250 h77.5
  text "4" at 130,-250 h77.5
Mechanical 16:
  rectangle: -165,-50 -135,-15
  rectangle: -165,15 -135,55
  rectangle: -65,-50 -35,-15
  rectangle: -65,15 -35,55
  rectangle: 35,-50 65,-15
  rectangle: 35,15 65,55
  rectangle: 135,-50 165,-15
  rectangle: 135,15 165,55
  lines w6: -185,-50 -115,-50 ; -85,-50 -15,-50 ; 15,-50 85,-50 ; 115,-50 185,-50

## DA-05 [mil]
pads (10):
  oct 48x48 hole 32: 1(-200,-50) 2(-100,-50) 3(0,-50) 4(100,-50) 5(200,-50) 6(200,50) 7(100,50) 8(0,50) 9(-100,50) 10(-200,50)
Top Overlay:
  rectangle: -230,-325 -170,-280
  rectangle: -130,-325 -70,-280
  rectangle: -215,-15 -185,15
  rectangle: -115,-15 -85,15
  rectangle: -15,-15 15,15
  rectangle: 85,-15 115,15
  rectangle: -30,-325 30,-280
  rectangle: 70,-325 130,-280
  rectangle: 185,-15 215,15
  rectangle: 170,-325 230,-280
  lines w6: -235,-50 -280,-50 -280,-280 280,-280 280,-50 235,-50 ; -165,-50 -135,-50 ; -65,-50 -35,-50 ; 35,-50 65,-50 ; 135,-50 165,-50
  text "1" at -215,-250 h77.5
  text "2" at -120,-250 h77.5
  text "3" at -20,-250 h77.5
  text "4" at 80,-250 h77.5
  text "5" at 180,-250 h77.5
Mechanical 16:
  rectangle: -215,-50 -185,-15
  rectangle: -215,15 -185,55
  rectangle: -115,-50 -85,-15
  rectangle: -115,15 -85,55
  rectangle: -15,-50 15,-15
  rectangle: -15,15 15,55
  rectangle: 85,-50 115,-15
  rectangle: 85,15 115,55
  rectangle: 185,-50 215,-15
  rectangle: 185,15 215,55
  lines w6: -235,-50 -165,-50 ; -135,-50 -65,-50 ; -35,-50 35,-50 ; 65,-50 135,-50 ; 165,-50 235,-50

## DA-06 [mil]
pads (12):
  oct 48x48 hole 32: 1(-250,-50) 2(-150,-50) 3(-50,-50) 4(50,-50) 5(150,-50) 6(250,-50) 7(250,50) 8(150,50) 9(50,50) 10(-50,50) 11(-150,50) 12(-250,50)
Top Overlay:
  rectangle: -280,-325 -220,-280
  rectangle: -180,-325 -120,-280
  rectangle: -265,-15 -235,15
  rectangle: -165,-15 -135,15
  rectangle: -65,-15 -35,15
  rectangle: 35,-15 65,15
  rectangle: -80,-325 -20,-280
  rectangle: 20,-325 80,-280
  rectangle: 135,-15 165,15
  rectangle: 235,-15 265,15
  rectangle: 120,-325 180,-280
  rectangle: 220,-325 280,-280
  lines w6: -285,-50 -330,-50 -330,-280 330,-280 330,-50 285,-50 ; -215,-50 -185,-50 ; -115,-50 -85,-50 ; -15,-50 15,-50 ; 85,-50 115,-50 ; 185,-50 215,-50
  text "1" at -265,-250 h77.5
  text "2" at -170,-250 h77.5
  text "3" at -70,-250 h77.5
  text "4" at 30,-250 h77.5
  text "5" at 130,-250 h77.5
  text "6" at 230,-250 h77.5
Mechanical 16:
  rectangle: -265,-50 -235,-15
  rectangle: -265,15 -235,55
  rectangle: -165,-50 -135,-15
  rectangle: -165,15 -135,55
  rectangle: -65,-50 -35,-15
  rectangle: -65,15 -35,55
  rectangle: 35,-50 65,-15
  rectangle: 35,15 65,55
  rectangle: 135,-50 165,-15
  rectangle: 235,-50 265,-15
  rectangle: 135,15 165,55
  rectangle: 235,15 265,55
  lines w6: -285,-50 -215,-50 ; -185,-50 -115,-50 ; -85,-50 -15,-50 ; 15,-50 85,-50 ; 115,-50 185,-50 ; 215,-50 285,-50

## DA-07 [mil]
pads (14):
  oct 48x48 hole 32: 1(-300,-50) 2(-200,-50) 3(-100,-50) 4(0,-50) 5(100,-50) 6(200,-50) 7(300,-50) 8(300,50) 9(200,50) 10(100,50) 11(0,50) 12(-100,50) 13(-200,50) 14(-300,50)
Top Overlay:
  rectangle: -330,-325 -270,-280
  rectangle: -230,-325 -170,-280
  rectangle: -315,-15 -285,15
  rectangle: -215,-15 -185,15
  rectangle: -115,-15 -85,15
  rectangle: -15,-15 15,15
  rectangle: -130,-325 -70,-280
  rectangle: -30,-325 30,-280
  rectangle: 85,-15 115,15
  rectangle: 185,-15 215,15
  rectangle: 285,-15 315,15
  rectangle: 70,-325 130,-280
  rectangle: 170,-325 230,-280
  rectangle: 270,-325 330,-280
  lines w6: -335,-50 -380,-50 -380,-280 380,-280 380,-50 335,-50 ; -265,-50 -235,-50 ; -165,-50 -135,-50 ; -65,-50 -35,-50 ; 35,-50 65,-50 ; 135,-50 165,-50 ; 235,-50 265,-50
  text "1" at -315,-250 h77.5
  text "2" at -220,-250 h77.5
  text "3" at -120,-250 h77.5
  text "4" at -20,-250 h77.5
  text "5" at 80,-250 h77.5
  text "6" at 180,-250 h77.5
  text "7" at 280,-250 h77.5
Mechanical 16:
  rectangle: -315,-50 -285,-15
  rectangle: -315,15 -285,55
  rectangle: -215,-50 -185,-15
  rectangle: -215,15 -185,55
  rectangle: -115,-50 -85,-15
  rectangle: -115,15 -85,55
  rectangle: -15,-50 15,-15
  rectangle: -15,15 15,55
  rectangle: 85,-50 115,-15
  rectangle: 85,15 115,55
  rectangle: 185,-50 215,-15
  rectangle: 185,15 215,55
  rectangle: 285,-50 315,-15
  rectangle: 285,15 315,55
  lines w6: -335,-50 -265,-50 ; -235,-50 -165,-50 ; -135,-50 -65,-50 ; -35,-50 35,-50 ; 65,-50 135,-50 ; 165,-50 235,-50 ; 265,-50 335,-50

## DA-08 [mil]
pads (16):
  oct 48x48 hole 32: 1(-350,-50) 2(-250,-50) 3(-150,-50) 4(-50,-50) 5(50,-50) 6(150,-50) 7(250,-50) 8(350,-50) 9(350,50) 10(250,50) 11(150,50) 12(50,50) 13(-50,50) 14(-150,50) 15(-250,50) 16(-350,50)
Top Overlay:
  rectangle: -380,-325 -320,-280
  rectangle: -280,-325 -220,-280
  rectangle: -365,-15 -335,15
  rectangle: -265,-15 -235,15
  rectangle: -165,-15 -135,15
  rectangle: -65,-15 -35,15
  rectangle: -180,-325 -120,-280
  rectangle: -80,-325 -20,-280
  rectangle: 35,-15 65,15
  rectangle: 135,-15 165,15
  rectangle: 235,-15 265,15
  rectangle: 20,-325 80,-280
  rectangle: 120,-325 180,-280
  rectangle: 220,-325 280,-280
  rectangle: 335,-15 365,15
  rectangle: 320,-325 380,-280
  lines w6: -385,-50 -430,-50 -430,-280 430,-280 430,-50 385,-50 ; -315,-50 -285,-50 ; -215,-50 -185,-50 ; -115,-50 -85,-50 ; -15,-50 15,-50 ; 85,-50 115,-50 ; 185,-50 215,-50 ; 285,-50 315,-50
  text "1" at -365,-250 h77.5
  text "2" at -270,-250 h77.5
  text "3" at -170,-250 h77.5
  text "4" at -70,-250 h77.5
  text "5" at 30,-250 h77.5
  text "6" at 130,-250 h77.5
  text "7" at 230,-250 h77.5
  text "8" at 330,-250 h77.5
Mechanical 16:
  rectangle: -365,-50 -335,-15
  rectangle: -365,15 -335,55
  rectangle: -265,-50 -235,-15
  rectangle: -265,15 -235,55
  rectangle: -165,-50 -135,-15
  rectangle: -165,15 -135,55
  rectangle: -65,-50 -35,-15
  rectangle: -65,15 -35,55
  rectangle: 35,-50 65,-15
  rectangle: 35,15 65,55
  rectangle: 135,-50 165,-15
  rectangle: 135,15 165,55
  rectangle: 235,-50 265,-15
  rectangle: 235,15 265,55
  rectangle: 335,-50 365,-15
  rectangle: 335,15 365,55
  lines w6: -385,-50 -315,-50 ; -285,-50 -215,-50 ; -185,-50 -115,-50 ; -85,-50 -15,-50 ; 15,-50 85,-50 ; 115,-50 185,-50 ; 215,-50 285,-50 ; 315,-50 385,-50

## DA-09 [mil]
pads (18):
  oct 48x48 hole 32: 1(-400,-50) 2(-300,-50) 3(-200,-50) 4(-100,-50) 5(0,-50) 6(100,-50) 7(200,-50) 8(300,-50) 9(400,-50) 10(400,50) 11(300,50) 12(200,50) 13(100,50) 14(0,50) 15(-100,50) 16(-200,50) 17(-300,50) 18(-400,50)
Top Overlay:
  rectangle: -430,-325 -370,-280
  rectangle: -330,-325 -270,-280
  rectangle: -415,-15 -385,15
  rectangle: -315,-15 -285,15
  rectangle: -215,-15 -185,15
  rectangle: -115,-15 -85,15
  rectangle: -230,-325 -170,-280
  rectangle: -130,-325 -70,-280
  rectangle: -15,-15 15,15
  rectangle: 85,-15 115,15
  rectangle: 185,-15 215,15
  rectangle: -30,-325 30,-280
  rectangle: 70,-325 130,-280
  rectangle: 170,-325 230,-280
  rectangle: 285,-15 315,15
  rectangle: 385,-15 415,15
  rectangle: 270,-325 330,-280
  rectangle: 370,-325 430,-280
  lines w6: -435,-50 -480,-50 -480,-280 480,-280 480,-50 435,-50 ; -365,-50 -335,-50 ; -265,-50 -235,-50 ; -165,-50 -135,-50 ; -65,-50 -35,-50 ; 35,-50 65,-50 ; 135,-50 165,-50 ; 235,-50 265,-50 ; 335,-50 365,-50
  text "1" at -415,-250 h77.5
  text "2" at -320,-250 h77.5
  text "3" at -220,-250 h77.5
  text "4" at -120,-250 h77.5
  text "5" at -20,-250 h77.5
  text "6" at 80,-250 h77.5
  text "7" at 180,-250 h77.5
  text "8" at 280,-250 h77.5
  text "9" at 380,-250 h77.5
Mechanical 16:
  rectangle: -415,-50 -385,-15
  rectangle: -415,15 -385,55
  rectangle: -315,-50 -285,-15
  rectangle: -315,15 -285,55
  rectangle: -215,-50 -185,-15
  rectangle: -215,15 -185,55
  rectangle: -115,-50 -85,-15
  rectangle: -115,15 -85,55
  rectangle: -15,-50 15,-15
  rectangle: -15,15 15,55
  rectangle: 85,-50 115,-15
  rectangle: 85,15 115,55
  rectangle: 185,-50 215,-15
  rectangle: 185,15 215,55
  rectangle: 285,-50 315,-15
  rectangle: 385,-50 415,-15
  rectangle: 285,15 315,55
  rectangle: 385,15 415,55
  lines w6: -435,-50 -365,-50 ; -335,-50 -265,-50 ; -235,-50 -165,-50 ; -135,-50 -65,-50 ; -35,-50 35,-50 ; 65,-50 135,-50 ; 165,-50 235,-50 ; 265,-50 335,-50 ; 365,-50 435,-50

## DA-10 [mil]
pads (20):
  oct 48x48 hole 32: 1(-450,-50) 2(-350,-50) 3(-250,-50) 4(-150,-50) 5(-50,-50) 6(50,-50) 7(150,-50) 8(250,-50) 9(350,-50) 10(450,-50) 11(450,50) 12(350,50) 13(250,50) 14(150,50) 15(50,50) 16(-50,50) 17(-150,50) 18(-250,50) 19(-350,50) 20(-450,50)
Top Overlay:
  rectangle: -480,-325 -420,-280
  rectangle: -380,-325 -320,-280
  rectangle: -465,-15 -435,15
  rectangle: -365,-15 -335,15
  rectangle: -265,-15 -235,15
  rectangle: -165,-15 -135,15
  rectangle: -280,-325 -220,-280
  rectangle: -180,-325 -120,-280
  rectangle: -65,-15 -35,15
  rectangle: 35,-15 65,15
  rectangle: 135,-15 165,15
  rectangle: -80,-325 -20,-280
  rectangle: 20,-325 80,-280
  rectangle: 120,-325 180,-280
  rectangle: 235,-15 265,15
  rectangle: 335,-15 365,15
  rectangle: 435,-15 465,15
  rectangle: 220,-325 280,-280
  rectangle: 320,-325 380,-280
  rectangle: 420,-325 480,-280
  lines w6: -485,-50 -530,-50 -530,-280 530,-280 530,-50 485,-50 ; -415,-50 -385,-50 ; -315,-50 -285,-50 ; -215,-50 -185,-50 ; -115,-50 -85,-50 ; -15,-50 15,-50 ; 85,-50 115,-50 ; 185,-50 215,-50 ; 285,-50 315,-50 ; 385,-50 415,-50
  text "1" at -465,-250 h77.5
  text "2" at -370,-250 h77.5
  text "3" at -270,-250 h77.5
  text "4" at -170,-250 h77.5
  text "5" at -70,-250 h77.5
  text "6" at 30,-250 h77.5
  text "7" at 130,-250 h77.5
  text "8" at 230,-250 h77.5
  text "9" at 330,-250 h77.5
  text "10" at 430,-250 h77.5
Mechanical 16:
  rectangle: -465,-50 -435,-15
  rectangle: -465,15 -435,55
  rectangle: -365,-50 -335,-15
  rectangle: -365,15 -335,55
  rectangle: -265,-50 -235,-15
  rectangle: -265,15 -235,55
  rectangle: -165,-50 -135,-15
  rectangle: -165,15 -135,55
  rectangle: -65,-50 -35,-15
  rectangle: -65,15 -35,55
  rectangle: 35,-50 65,-15
  rectangle: 35,15 65,55
  rectangle: 135,-50 165,-15
  rectangle: 135,15 165,55
  rectangle: 235,-50 265,-15
  rectangle: 235,15 265,55
  rectangle: 335,-50 365,-15
  rectangle: 335,15 365,55
  rectangle: 435,-50 465,-15
  rectangle: 435,15 465,55
  lines w6: -485,-50 -415,-50 ; -385,-50 -315,-50 ; -285,-50 -215,-50 ; -185,-50 -115,-50 ; -85,-50 -15,-50 ; 15,-50 85,-50 ; 115,-50 185,-50 ; 215,-50 285,-50 ; 315,-50 385,-50 ; 415,-50 485,-50

## DA-12 [mil]
pads (24):
  oct 48x48 hole 32: 1(-550,-50) 2(-450,-50) 3(-350,-50) 4(-250,-50) 5(-150,-50) 6(-50,-50) 7(50,-50) 8(150,-50) 9(250,-50) 10(350,-50) 11(450,-50) 12(550,-50) 13(550,50) 14(450,50) 15(350,50) 16(250,50) 17(150,50) 18(50,50) 19(-50,50) 20(-150,50) 21(-250,50) 22(-350,50) 23(-450,50) 24(-550,50)
Top Overlay:
  rectangle: -580,-325 -520,-280
  rectangle: -480,-325 -420,-280
  rectangle: -565,-15 -535,15
  rectangle: -465,-15 -435,15
  rectangle: -365,-15 -335,15
  rectangle: -265,-15 -235,15
  rectangle: -380,-325 -320,-280
  rectangle: -280,-325 -220,-280
  rectangle: -165,-15 -135,15
  rectangle: -65,-15 -35,15
  rectangle: 35,-15 65,15
  rectangle: -180,-325 -120,-280
  rectangle: -80,-325 -20,-280
  rectangle: 20,-325 80,-280
  rectangle: 135,-15 165,15
  rectangle: 235,-15 265,15
  rectangle: 335,-15 365,15
  rectangle: 435,-15 465,15
  rectangle: 535,-15 565,15
  rectangle: 120,-325 180,-280
  rectangle: 220,-325 280,-280
  rectangle: 320,-325 380,-280
  rectangle: 420,-325 480,-280
  rectangle: 520,-325 580,-280
  lines w6: -585,-50 -630,-50 -630,-280 630,-280 630,-50 585,-50 ; -515,-50 -485,-50 ; -415,-50 -385,-50 ; -315,-50 -285,-50 ; -215,-50 -185,-50 ; -115,-50 -85,-50 ; -15,-50 15,-50 ; 85,-50 115,-50 ; 185,-50 215,-50 ; 285,-50 315,-50 ; 385,-50 415,-50 ; 485,-50 515,-50
  text "1" at -565,-250 h77.5
  text "2" at -470,-250 h77.5
  text "3" at -370,-250 h77.5
  text "4" at -270,-250 h77.5
  text "5" at -170,-250 h77.5
  text "6" at -70,-250 h77.5
  text "7" at 30,-250 h77.5
  text "8" at 130,-250 h77.5
  text "9" at 230,-250 h77.5
  text "10" at 310,-250 h77.5
  text "11" at 420,-250 h77.5
  text "12" at 515,-250 h77.5
Mechanical 16:
  rectangle: -565,-50 -535,-15
  rectangle: -565,15 -535,55
  rectangle: -465,-50 -435,-15
  rectangle: -465,15 -435,55
  rectangle: -365,-50 -335,-15
  rectangle: -365,15 -335,55
  rectangle: -265,-50 -235,-15
  rectangle: -265,15 -235,55
  rectangle: -165,-50 -135,-15
  rectangle: -165,15 -135,55
  rectangle: -65,-50 -35,-15
  rectangle: -65,15 -35,55
  rectangle: 35,-50 65,-15
  rectangle: 35,15 65,55
  rectangle: 135,-50 165,-15
  rectangle: 135,15 165,55
  rectangle: 235,-50 265,-15
  rectangle: 235,15 265,55
  rectangle: 335,-50 365,-15
  rectangle: 335,15 365,55
  rectangle: 435,-50 465,-15
  rectangle: 435,15 465,55
  rectangle: 535,-50 565,-15
  rectangle: 535,15 565,55
  lines w6: -585,-50 -515,-50 ; -485,-50 -415,-50 ; -385,-50 -315,-50 ; -285,-50 -215,-50 ; -185,-50 -115,-50 ; -85,-50 -15,-50 ; 15,-50 85,-50 ; 115,-50 185,-50 ; 215,-50 285,-50 ; 315,-50 385,-50 ; 415,-50 485,-50 ; 515,-50 585,-50